# Altium footprint library 691418420006.PcbLib: 1 footprints
Each footprint in its own frame and in the unit in brackets; x right, y up, seen from the top. Pads: shape width x height; smd on the part's side, far side on the other; paste and mask are expansions set on the pad; w line width, h text height; cw(c..) or ccw(c..) is an arc to the next point about the centre after c.
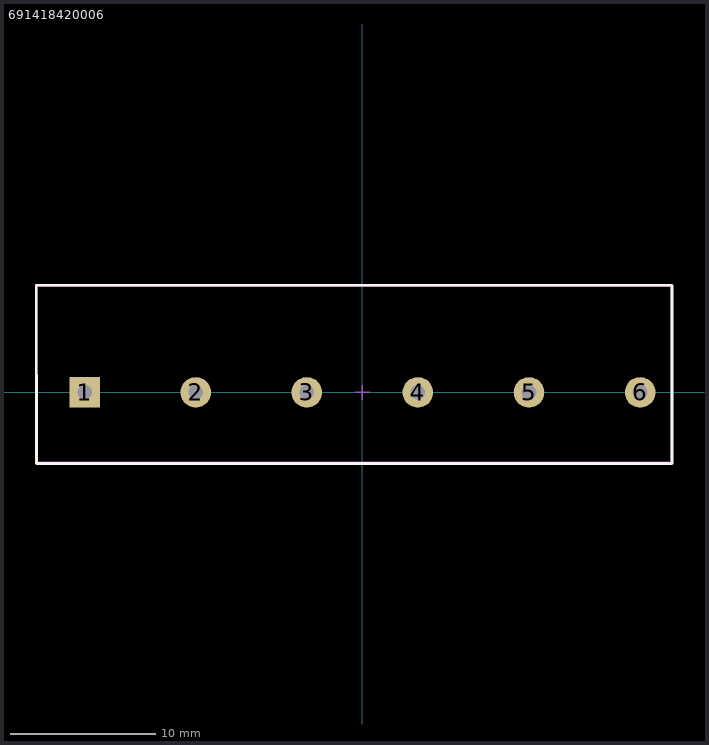
[diagram p0: the footprint, top view; thin cyan lines are the x and y axes]

## 691418420006 [mm] "45° cable entry screwless"
height 13.2
pads (6):
  rect 2.1x2.1 hole 1: 1(-19.05,0)
  round 2.1 hole 1: 2(-11.43,0) 3(-3.81,0) 4(3.81,0) 5(11.43,0) 6(19.05,0)
Top Overlay:
  lines w0.2: -22.37,7.35 -22.36,-4.86 21.25,-4.87 21.25,7.34 -22.37,7.35
Top Assembly:
  lines w0.1: -22.32,7.28 21.19,7.29 -22.32,7.29 -22.32,-4.82 21.19,-4.81 21.19,7.28 ; -0.5,0 0.5,0 ; 0,-0.5 0,0.5
Top Courtyard:
  lines w0.1: -22.4,-4.8 21.2,-4.8 21.2,7.4 -22.4,7.4 -22.4,-4.8
3D body "691418420006 (rev1).stp": height 13.23, standoff -3.57, extent -22.3,-4.7 21.11,7.3